# Altium schematic symbol library Flight Controller.SchLib: 36 symbols
Pins are listed as number, name and electrical type; pins without a type are passive.

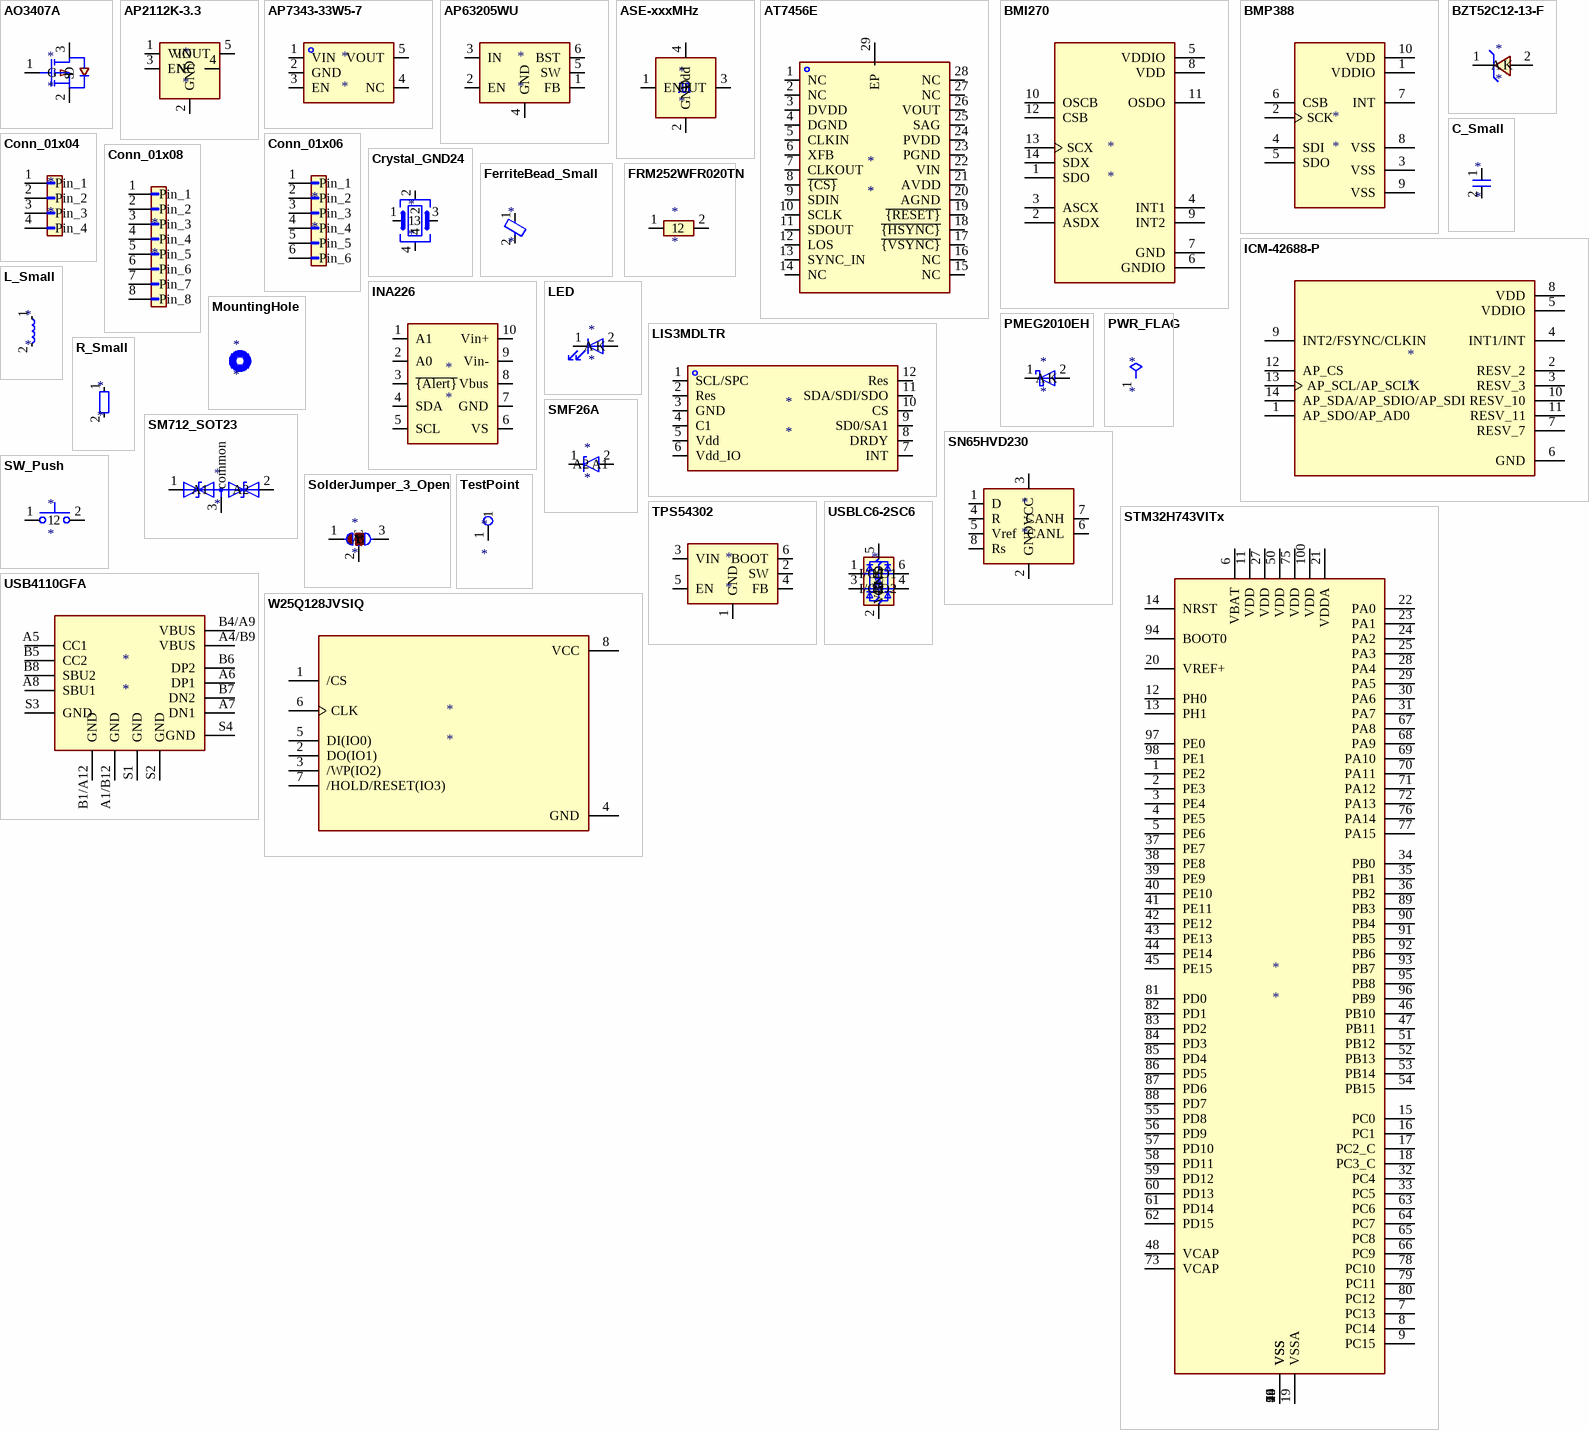
[diagram p0: symbols AO3407A to W25Q128JVSIQ]

## AO3407A
designator *
pins: 1 G, 2 S, 3 D

## AP2112K-3.3
designator *
pins: 1 VIN, 2 GND, 3 EN, 4 NC, 5 VOUT

## AP7343-33W5-7
designator *
pins: 1 VIN, 2 GND, 3 EN, 4 NC, 5 VOUT

## AP63205WU
designator *
pins: 1 FB, 2 EN, 3 IN, 4 GND, 5 SW, 6 BST

## ASE-xxxMHz
designator *
pins: 1 EN, 2 GND, 3 OUT, 4 Vdd

## AT7456E
designator *
pins: 1 NC, 2 NC, 3 DVDD, 4 DGND, 5 CLKIN, 6 XFB, 7 CLKOUT, 8 ~{{CS}}, 9 SDIN, 10 SCLK, 11 SDOUT, 12 LOS, 13 SYNC_IN, 14 NC, 15 NC, 16 NC, 17 ~{{VSYNC}}, 18 ~{{HSYNC}}, 19 ~{{RESET}}, 20 AGND, 21 AVDD, 22 VIN, 23 PGND, 24 PVDD, 25 SAG, 26 VOUT, 27 NC, 28 NC, 29 EP

## BMI270
designator *
pins: 1 SDO, 2 ASDX, 3 ASCX, 4 INT1, 5 VDDIO, 6 GNDIO, 7 GND, 8 VDD, 9 INT2, 10 OSCB, 11 OSDO, 12 CSB, 13 SCX, 14 SDX

## BMP388
designator *
pins: 1 VDDIO, 2 SCK, 3 VSS, 4 SDI, 5 SDO, 6 CSB, 7 INT, 8 VSS, 9 VSS, 10 VDD

## BZT52C12-13-F
designator *
pins: 1 K, 2 A

## C_Small
designator *
pins: 1, 2

## Conn_01x04
designator *
pins: 1 Pin_1, 2 Pin_2, 3 Pin_3, 4 Pin_4

## Conn_01x06
designator *
pins: 1 Pin_1, 2 Pin_2, 3 Pin_3, 4 Pin_4, 5 Pin_5, 6 Pin_6

## Conn_01x08
designator *
pins: 1 Pin_1, 2 Pin_2, 3 Pin_3, 4 Pin_4, 5 Pin_5, 6 Pin_6, 7 Pin_7, 8 Pin_8

## Crystal_GND24
designator *
pins: 1, 2, 3, 4

## FerriteBead_Small
designator *
pins: 1, 2

## FRM252WFR020TN
designator *
pins: 1, 2

## ICM-42688-P
designator *
pins: 1 AP_SDO/AP_AD0, 2 RESV_2, 3 RESV_3, 4 INT1/INT, 5 VDDIO, 6 GND, 7 RESV_7, 8 VDD, 9 INT2/FSYNC/CLKIN, 10 RESV_10, 11 RESV_11, 12 AP_CS, 13 AP_SCL/AP_SCLK, 14 AP_SDA/AP_SDIO/AP_SDI

## INA226
designator *
pins: 1 A1, 2 A0, 3 ~{{Alert}}, 4 SDA, 5 SCL, 6 VS, 7 GND, 8 Vbus, 9 Vin-, 10 Vin+

## L_Small
designator *
pins: 1, 2

## LED
designator *
pins: 1 K, 2 A

## LIS3MDLTR
designator *
pins: 1 SCL/SPC, 2 Res, 3 GND, 4 C1, 5 Vdd, 6 Vdd_IO, 7 INT, 8 DRDY, 9 SD0/SA1, 10 CS, 11 SDA/SDI/SDO, 12 Res

## MountingHole
designator *

## PMEG2010EH
designator *
pins: 1 K, 2 A

## PWR_FLAG
designator *  (graphical)
pins: 1

## R_Small
designator *
pins: 1, 2

## SM712_SOT23
designator *
pins: 1 A1, 2 A2, 3 common

## SMF26A
designator *
pins: 1 A1, 2 A2

## SN65HVD230
designator *
pins: 1 D, 2 GND, 3 VCC, 4 R, 5 Vref, 6 CANL, 7 CANH, 8 Rs

## SolderJumper_3_Open
designator *
pins: 1 A, 2 C, 3 B

## STM32H743VITx
designator *
pins: 1 PE2, 2 PE3, 3 PE4, 4 PE5, 5 PE6, 6 VBAT, 7 PC13, 8 PC14, 9 PC15, 10 VSS, 11 VDD, 12 PH0, 13 PH1, 14 NRST, 15 PC0, 16 PC1, 17 PC2_C, 18 PC3_C, 19 VSSA, 20 VREF+, 21 VDDA, 22 PA0, 23 PA1, 24 PA2, 25 PA3, 26 VSS, 27 VDD, 28 PA4, 29 PA5, 30 PA6, 31 PA7, 32 PC4, 33 PC5, 34 PB0, 35 PB1, 36 PB2, 37 PE7, 38 PE8, 39 PE9, 40 PE10, 41 PE11, 42 PE12, 43 PE13, 44 PE14, 45 PE15, 46 PB10, 47 PB11, 48 VCAP, 49 VSS, 50 VDD, 51 PB12, 52 PB13, 53 PB14, 54 PB15, 55 PD8, 56 PD9, 57 PD10, 58 PD11, 59 PD12, 60 PD13, 61 PD14, 62 PD15, 63 PC6, 64 PC7, 65 PC8, 66 PC9, 67 PA8, 68 PA9, 69 PA10, 70 PA11, 71 PA12, 72 PA13, 73 VCAP, 74 VSS, 75 VDD, 76 PA14, 77 PA15, 78 PC10, 79 PC11, 80 PC12, 81 PD0, 82 PD1, 83 PD2, 84 PD3, 85 PD4, 86 PD5, 87 PD6, 88 PD7, 89 PB3, 90 PB4, 91 PB5, 92 PB6, 93 PB7, 94 BOOT0, 95 PB8, 96 PB9, 97 PE0, 98 PE1, 99 VSS, 100 VDD

## SW_Push
designator *
pins: 1, 2

## TestPoint
designator *
pins: 1

## TPS54302
designator *
pins: 1 GND, 2 SW, 3 VIN, 4 FB, 5 EN, 6 BOOT

## USB4110GFA
designator *
pins: A1/B12 GND, A4/B9 VBUS, A5 CC1, A6 DP1, A7 DN1, A8 SBU1, B1/A12 GND, B4/A9 VBUS, B5 CC2, B6 DP2, B7 DN2, B8 SBU2, S1 GND, S2 GND, S3 GND, S4 GND

## USBLC6-2SC6
designator *
pins: 1 I/O1, 2 GND, 3 I/O2, 4 I/O2, 5 VBUS, 6 I/O1

## W25Q128JVSIQ
designator *
pins: 1 /CS, 2 DO(IO1), 3 /WP(IO2), 4 GND, 5 DI(IO0), 6 CLK, 7 /HOLD/RESET(IO3), 8 VCC